# Altium schematic symbol library Schlib3.SchLib: 1 symbol
Pins are listed as number, name and electrical type; pins without a type are passive.

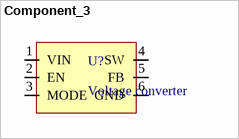
[diagram p0: symbol Component_3]

## Component_3
designator U?, comment Voltage converter
footprint USON
pins: 1 VIN, 2 EN, 3 MODE, 4 SW, 5 FB, 6 GND